# Altium integrated library Linear Technology Power Management uModule Regulators.IntLib: 166 symbols (part 55 of 67)
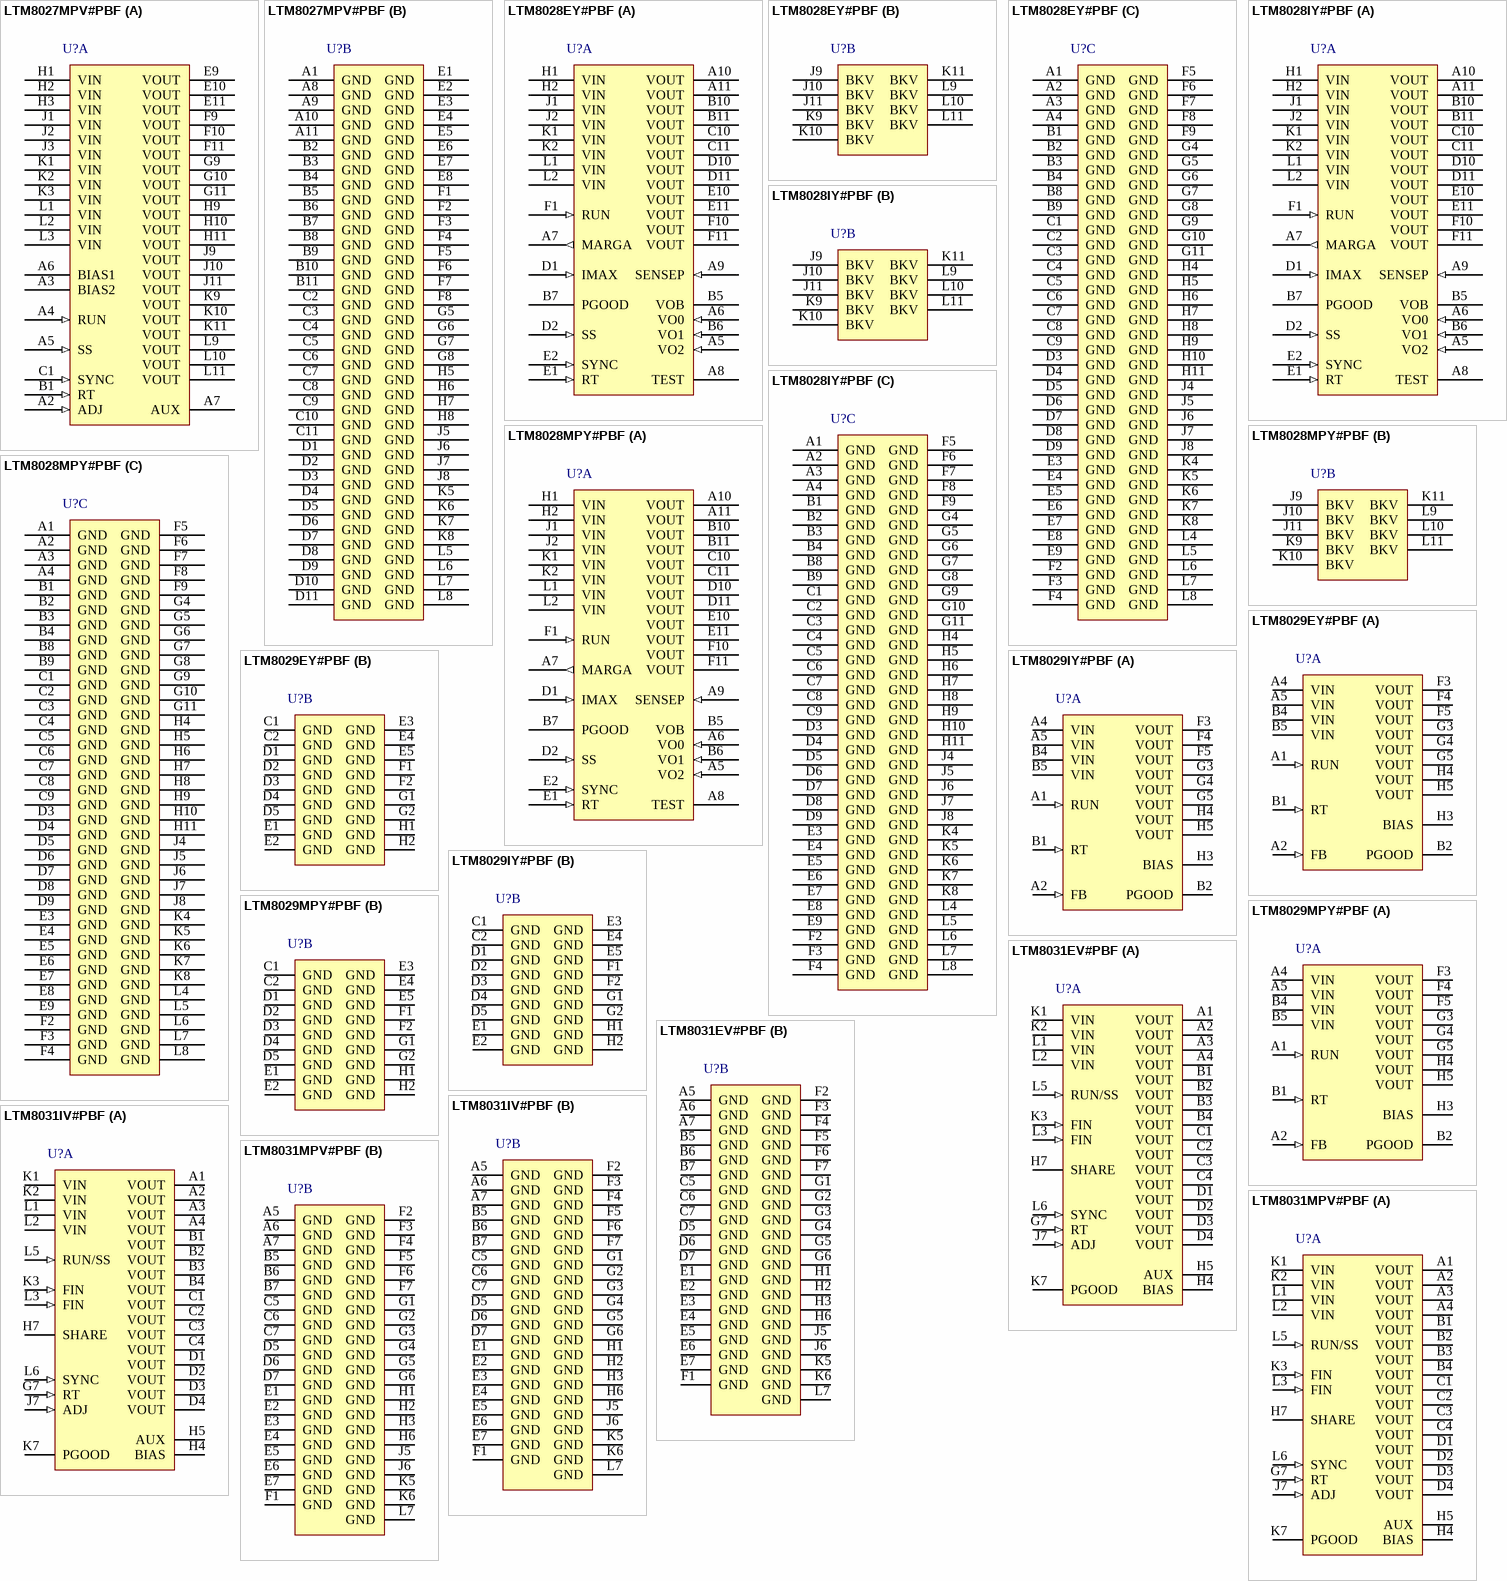
[diagram p81: symbols LTM8027MPV#PBF to LTM8031MPV#PBF]

## LTM8028EY#PBF
designator U?
36 VIN, UltraFast, Low Output Noise 5 A uModule Regulator, 114-pin BGA, -40 to 125 degC, Pb-Free, Tray; Manufacturer: Linear Technology; PartNumber: LTM8028EY#PBF; Extended Temp: E, I, MP; Frequency Adjust Range: 200kHz - 1MHz; Frequency(kHz): 1000; Ishutdown(uA): 1; Isupply(mA): 35; Output Current(A): 5; Switch Current(A): 8; Synchronous: no; Topology: Buck; Vin Max(V): 36; Vin Min(V): 6; Vout Max(V): 1.8; Vout Min(V): 0.8; PackageVersion: Rev. A, 01/2013; PackageReference: BGA-114; PackageDescription: 114-Ball BGA, Body 15 x 15 mm, Pitch 1.27 mm; Supplier 1: Digi-Key; Supplier Part Number 1: LTM8028EY#PBF-ND; Supplier 2: Farnell; Supplier Part Number 2: 2322434; Supplier 3: Newark; Supplier Part Number 3: 86W7070; Frequency Sync Range: 200kHz - 1MHz; Number of Outputs: 1; Packing: Tray; RoHS: TRUE; Tracking: no; Mounting Technology: Surface Mount; Code_JEDEC: MO-222; ComponentLink1Description: Manufacturer URL; ComponentLink1URL: http://www.linear.com/; ComponentLink2Description: Datasheet; ComponentLink2URL: http://cds.linear.com/docs/en/datasheet/8028f.pdf; ComponentLink3Description: Package Specification; ComponentLink3URL: http://cds.linear.com/docs/en/packaging/05081894_A_bga114.pdf
footprint LT-BGA-114-15000X15000X4920 (BGA, 114-Balls, Body 15x15mm, Pitch 1.27mm)
part A pins: A5 VO2 (in) "Output Voltage Select. These three-state pins combine to select a nominal output voltage from 0.8V to 1.8V in increments of 50mV. See Table 2 in the Applications Information section that defines the VO2, VO1 and VO0 settings (See Datasheet)", A6 VO0 (in) "Output Voltage Select. These three-state pins combine to select a nominal output voltage from 0.8V to 1.8V in increments of 50mV. See Table 2 in the Applications Information section that defines the VO2, VO1 and VO0 settings (See Datasheet)", A7 MARGA (out) "Analog Margining: This pin margins the output voltage over a continuous analog range of +/-10%. Tying this pin to GND adjusts output voltage by -10%. Driving this pin to 1.2V adjusts output voltage by 10%. A voltage source (See Datasheet)", A8 TEST "Factory Test. Leave this pin open.", A9 SENSEP (in) "Kelvin Sense for VOUT. The SENSEP pin is the inverting input to the error amplifier.", A10 VOUT (power) "Power Output Pins. Apply the output filter capacitor and the output load between these and the GND pins.", A11 VOUT (power) "Power Output Pins. Apply the output filter capacitor and the output load between these and the GND pins.", B5 VOB "Bias for VO0, VO1, VO2. This is a 3.3V source to conveniently pull up the VO0, VO1, VO2 pins, if desired. If not used, leave this pin floating.", B6 VO1 (in) "Output Voltage Select. These three-state pins combine to select a nominal output voltage from 0.8V to 1.8V in increments of 50mV. See Table 2 in the Applications Information section that defines the VO2, VO1 and VO0 settings (See Datasheet)", B7 PGOOD (oc), B10 VOUT (power) "Power Output Pins. Apply the output filter capacitor and the output load between these and the GND pins.", B11 VOUT (power) "Power Output Pins. Apply the output filter capacitor and the output load between these and the GND pins.", C10 VOUT (power) "Power Output Pins. Apply the output filter capacitor and the output load between these and the GND pins.", C11 VOUT (power) "Power Output Pins. Apply the output filter capacitor and the output load between these and the GND pins.", D1 IMAX (in) "Sets the Maximum Output Current. Connect a resistor/ NTC thermistor network to the IMAX pin to reduce the maximum regulated output current of the LTM8028 in response to temperature. This pin is internally pulled up to 2V (See Datasheet)", D2 SS (in) "The Soft-Start Pin. Place an external capacitor to ground to limit the regulated current during start-up conditions. The soft-start pin has an 11uA charging current.", D10 VOUT (power) "Power Output Pins. Apply the output filter capacitor and the output load between these and the GND pins.", D11 VOUT (power) "Power Output Pins. Apply the output filter capacitor and the output load between these and the GND pins.", E1 RT (in) "The RT pin is used to program the switching frequency of the LTM8028’s buck regulator by connecting a resistor from this pin to ground. The Applications Information section of the data sheet includes a table to determin(See Datasheet)", E2 SYNC (in) "Frequency Synchronization Pin. This pin allows the switching frequency to be synchronized to an external clock. The RT resistor should be chosen to operate the internal clock at 20% slower than the SYNC pulse frequency. This (See Datasheet)", E10 VOUT (power) "Power Output Pins. Apply the output filter capacitor and the output load between these and the GND pins.", E11 VOUT (power) "Power Output Pins. Apply the output filter capacitor and the output load between these and the GND pins.", F1 RUN (in) "The RUN pin acts as an enable pin and turns off the internal circuitry at 1.55V. The pin does not have any pull-up or pull-down, requiring a voltage bias for normal part operation. The RUN pin is internally clamped, so it (See Datasheet)", F10 VOUT (power) "Power Output Pins. Apply the output filter capacitor and the output load between these and the GND pins.", F11 VOUT (power) "Power Output Pins. Apply the output filter capacitor and the output load between these and the GND pins.", H1 VIN (power) "The VIN pin supplies current to the LTM8028’s internal regulator and to the internal power switch. This pin must be locally bypassed with an external, low ESR capacitor; see Table 1 for recommended values.", H2 VIN (power) "The VIN pin supplies current to the LTM8028’s internal regulator and to the internal power switch. This pin must be locally bypassed with an external, low ESR capacitor; see Table 1 for recommended values.", J1 VIN (power) "The VIN pin supplies current to the LTM8028’s internal regulator and to the internal power switch. This pin must be locally bypassed with an external, low ESR capacitor; see Table 1 for recommended values.", J2 VIN (power) "The VIN pin supplies current to the LTM8028’s internal regulator and to the internal power switch. This pin must be locally bypassed with an external, low ESR capacitor; see Table 1 for recommended values.", K1 VIN (power) "The VIN pin supplies current to the LTM8028’s internal regulator and to the internal power switch. This pin must be locally bypassed with an external, low ESR capacitor; see Table 1 for recommended values.", K2 VIN (power) "The VIN pin supplies current to the LTM8028’s internal regulator and to the internal power switch. This pin must be locally bypassed with an external, low ESR capacitor; see Table 1 for recommended values.", L1 VIN (power) "The VIN pin supplies current to the LTM8028’s internal regulator and to the internal power switch. This pin must be locally bypassed with an external, low ESR capacitor; see Table 1 for recommended values.", L2 VIN (power) "The VIN pin supplies current to the LTM8028’s internal regulator and to the internal power switch. This pin must be locally bypassed with an external, low ESR capacitor; see Table 1 for recommended values."
part B pins: J9 BKV (power) "Buck Regulator Output. Apply the step-down regulator’s bulk capacitance here (refer to Table 1). Do not connect this to the load. Do not drive a voltage into BKV.", J10 BKV (power) "Buck Regulator Output. Apply the step-down regulator’s bulk capacitance here (refer to Table 1). Do not connect this to the load. Do not drive a voltage into BKV.", J11 BKV (power) "Buck Regulator Output. Apply the step-down regulator’s bulk capacitance here (refer to Table 1). Do not connect this to the load. Do not drive a voltage into BKV.", K9 BKV (power) "Buck Regulator Output. Apply the step-down regulator’s bulk capacitance here (refer to Table 1). Do not connect this to the load. Do not drive a voltage into BKV.", K10 BKV (power) "Buck Regulator Output. Apply the step-down regulator’s bulk capacitance here (refer to Table 1). Do not connect this to the load. Do not drive a voltage into BKV.", K11 BKV (power) "Buck Regulator Output. Apply the step-down regulator’s bulk capacitance here (refer to Table 1). Do not connect this to the load. Do not drive a voltage into BKV.", L9 BKV (power) "Buck Regulator Output. Apply the step-down regulator’s bulk capacitance here (refer to Table 1). Do not connect this to the load. Do not drive a voltage into BKV.", L10 BKV (power) "Buck Regulator Output. Apply the step-down regulator’s bulk capacitance here (refer to Table 1). Do not connect this to the load. Do not drive a voltage into BKV.", L11 BKV (power) "Buck Regulator Output. Apply the step-down regulator’s bulk capacitance here (refer to Table 1). Do not connect this to the load. Do not drive a voltage into BKV."
part C pins: A1 GND (power) "Tie these GND pins to a local ground plane below the LTM8028 and the circuit components. In most applications, the bulk of the heat flow out of the LTM8028 is through these pads, so the printed circuit design has a large (See Datasheet)", A2 GND (power) "Tie these GND pins to a local ground plane below the LTM8028 and the circuit components. In most applications, the bulk of the heat flow out of the LTM8028 is through these pads, so the printed circuit design has a large (See Datasheet)", A3 GND (power) "Tie these GND pins to a local ground plane below the LTM8028 and the circuit components. In most applications, the bulk of the heat flow out of the LTM8028 is through these pads, so the printed circuit design has a large (See Datasheet)", A4 GND (power) "Tie these GND pins to a local ground plane below the LTM8028 and the circuit components. In most applications, the bulk of the heat flow out of the LTM8028 is through these pads, so the printed circuit design has a large (See Datasheet)", B1 GND (power) "Tie these GND pins to a local ground plane below the LTM8028 and the circuit components. In most applications, the bulk of the heat flow out of the LTM8028 is through these pads, so the printed circuit design has a large (See Datasheet)", B2 GND (power) "Tie these GND pins to a local ground plane below the LTM8028 and the circuit components. In most applications, the bulk of the heat flow out of the LTM8028 is through these pads, so the printed circuit design has a large (See Datasheet)", B3 GND (power) "Tie these GND pins to a local ground plane below the LTM8028 and the circuit components. In most applications, the bulk of the heat flow out of the LTM8028 is through these pads, so the printed circuit design has a large (See Datasheet)", B4 GND (power) "Tie these GND pins to a local ground plane below the LTM8028 and the circuit components. In most applications, the bulk of the heat flow out of the LTM8028 is through these pads, so the printed circuit design has a large (See Datasheet)", B8 GND (power) "Tie these GND pins to a local ground plane below the LTM8028 and the circuit components. In most applications, the bulk of the heat flow out of the LTM8028 is through these pads, so the printed circuit design has a large (See Datasheet)", B9 GND (power) "Tie these GND pins to a local ground plane below the LTM8028 and the circuit components. In most applications, the bulk of the heat flow out of the LTM8028 is through these pads, so the printed circuit design has a large (See Datasheet)", C1 GND (power) "Tie these GND pins to a local ground plane below the LTM8028 and the circuit components. In most applications, the bulk of the heat flow out of the LTM8028 is through these pads, so the printed circuit design has a large (See Datasheet)", C2 GND (power) "Tie these GND pins to a local ground plane below the LTM8028 and the circuit components. In most applications, the bulk of the heat flow out of the LTM8028 is through these pads, so the printed circuit design has a large (See Datasheet)", C3 GND (power) "Tie these GND pins to a local ground plane below the LTM8028 and the circuit components. In most applications, the bulk of the heat flow out of the LTM8028 is through these pads, so the printed circuit design has a large (See Datasheet)", C4 GND (power) "Tie these GND pins to a local ground plane below the LTM8028 and the circuit components. In most applications, the bulk of the heat flow out of the LTM8028 is through these pads, so the printed circuit design has a large (See Datasheet)", C5 GND (power) "Tie these GND pins to a local ground plane below the LTM8028 and the circuit components. In most applications, the bulk of the heat flow out of the LTM8028 is through these pads, so the printed circuit design has a large (See Datasheet)", C6 GND (power) "Tie these GND pins to a local ground plane below the LTM8028 and the circuit components. In most applications, the bulk of the heat flow out of the LTM8028 is through these pads, so the printed circuit design has a large (See Datasheet)", C7 GND (power) "Tie these GND pins to a local ground plane below the LTM8028 and the circuit components. In most applications, the bulk of the heat flow out of the LTM8028 is through these pads, so the printed circuit design has a large (See Datasheet)", C8 GND (power) "Tie these GND pins to a local ground plane below the LTM8028 and the circuit components. In most applications, the bulk of the heat flow out of the LTM8028 is through these pads, so the printed circuit design has a large (See Datasheet)", C9 GND (power) "Tie these GND pins to a local ground plane below the LTM8028 and the circuit components. In most applications, the bulk of the heat flow out of the LTM8028 is through these pads, so the printed circuit design has a large (See Datasheet)", D3 GND (power) "Tie these GND pins to a local ground plane below the LTM8028 and the circuit components. In most applications, the bulk of the heat flow out of the LTM8028 is through these pads, so the printed circuit design has a large (See Datasheet)", D4 GND (power) "Tie these GND pins to a local ground plane below the LTM8028 and the circuit components. In most applications, the bulk of the heat flow out of the LTM8028 is through these pads, so the printed circuit design has a large (See Datasheet)", D5 GND (power) "Tie these GND pins to a local ground plane below the LTM8028 and the circuit components. In most applications, the bulk of the heat flow out of the LTM8028 is through these pads, so the printed circuit design has a large (See Datasheet)", D6 GND (power) "Tie these GND pins to a local ground plane below the LTM8028 and the circuit components. In most applications, the bulk of the heat flow out of the LTM8028 is through these pads, so the printed circuit design has a large (See Datasheet)", D7 GND (power) "Tie these GND pins to a local ground plane below the LTM8028 and the circuit components. In most applications, the bulk of the heat flow out of the LTM8028 is through these pads, so the printed circuit design has a large (See Datasheet)", D8 GND (power) "Tie these GND pins to a local ground plane below the LTM8028 and the circuit components. In most applications, the bulk of the heat flow out of the LTM8028 is through these pads, so the printed circuit design has a large (See Datasheet)", D9 GND (power) "Tie these GND pins to a local ground plane below the LTM8028 and the circuit components. In most applications, the bulk of the heat flow out of the LTM8028 is through these pads, so the printed circuit design has a large (See Datasheet)", E3 GND (power) "Tie these GND pins to a local ground plane below the LTM8028 and the circuit components. In most applications, the bulk of the heat flow out of the LTM8028 is through these pads, so the printed circuit design has a large (See Datasheet)", E4 GND (power) "Tie these GND pins to a local ground plane below the LTM8028 and the circuit components. In most applications, the bulk of the heat flow out of the LTM8028 is through these pads, so the printed circuit design has a large (See Datasheet)", E5 GND (power) "Tie these GND pins to a local ground plane below the LTM8028 and the circuit components. In most applications, the bulk of the heat flow out of the LTM8028 is through these pads, so the printed circuit design has a large (See Datasheet)", E6 GND (power) "Tie these GND pins to a local ground plane below the LTM8028 and the circuit components. In most applications, the bulk of the heat flow out of the LTM8028 is through these pads, so the printed circuit design has a large (See Datasheet)", E7 GND (power) "Tie these GND pins to a local ground plane below the LTM8028 and the circuit components. In most applications, the bulk of the heat flow out of the LTM8028 is through these pads, so the printed circuit design has a large (See Datasheet)", E8 GND (power) "Tie these GND pins to a local ground plane below the LTM8028 and the circuit components. In most applications, the bulk of the heat flow out of the LTM8028 is through these pads, so the printed circuit design has a large (See Datasheet)", E9 GND (power) "Tie these GND pins to a local ground plane below the LTM8028 and the circuit components. In most applications, the bulk of the heat flow out of the LTM8028 is through these pads, so the printed circuit design has a large (See Datasheet)", F2 GND (power) "Tie these GND pins to a local ground plane below the LTM8028 and the circuit components. In most applications, the bulk of the heat flow out of the LTM8028 is through these pads, so the printed circuit design has a large (See Datasheet)", F3 GND (power) "Tie these GND pins to a local ground plane below the LTM8028 and the circuit components. In most applications, the bulk of the heat flow out of the LTM8028 is through these pads, so the printed circuit design has a large (See Datasheet)", F4 GND (power) "Tie these GND pins to a local ground plane below the LTM8028 and the circuit components. In most applications, the bulk of the heat flow out of the LTM8028 is through these pads, so the printed circuit design has a large (See Datasheet)", F5 GND (power) "Tie these GND pins to a local ground plane below the LTM8028 and the circuit components. In most applications, the bulk of the heat flow out of the LTM8028 is through these pads, so the printed circuit design has a large (See Datasheet)", F6 GND (power) "Tie these GND pins to a local ground plane below the LTM8028 and the circuit components. In most applications, the bulk of the heat flow out of the LTM8028 is through these pads, so the printed circuit design has a large (See Datasheet)", F7 GND (power) "Tie these GND pins to a local ground plane below the LTM8028 and the circuit components. In most applications, the bulk of the heat flow out of the LTM8028 is through these pads, so the printed circuit design has a large (See Datasheet)", F8 GND (power) "Tie these GND pins to a local ground plane below the LTM8028 and the circuit components. In most applications, the bulk of the heat flow out of the LTM8028 is through these pads, so the printed circuit design has a large (See Datasheet)", F9 GND (power) "Tie these GND pins to a local ground plane below the LTM8028 and the circuit components. In most applications, the bulk of the heat flow out of the LTM8028 is through these pads, so the printed circuit design has a large (See Datasheet)", G4 GND (power) "Tie these GND pins to a local ground plane below the LTM8028 and the circuit components. In most applications, the bulk of the heat flow out of the LTM8028 is through these pads, so the printed circuit design has a large (See Datasheet)", G5 GND (power) "Tie these GND pins to a local ground plane below the LTM8028 and the circuit components. In most applications, the bulk of the heat flow out of the LTM8028 is through these pads, so the printed circuit design has a large (See Datasheet)", G6 GND (power) "Tie these GND pins to a local ground plane below the LTM8028 and the circuit components. In most applications, the bulk of the heat flow out of the LTM8028 is through these pads, so the printed circuit design has a large (See Datasheet)", G7 GND (power) "Tie these GND pins to a local ground plane below the LTM8028 and the circuit components. In most applications, the bulk of the heat flow out of the LTM8028 is through these pads, so the printed circuit design has a large (See Datasheet)", G8 GND (power) "Tie these GND pins to a local ground plane below the LTM8028 and the circuit components. In most applications, the bulk of the heat flow out of the LTM8028 is through these pads, so the printed circuit design has a large (See Datasheet)", G9 GND (power) "Tie these GND pins to a local ground plane below the LTM8028 and the circuit components. In most applications, the bulk of the heat flow out of the LTM8028 is through these pads, so the printed circuit design has a large (See Datasheet)", G10 GND (power) "Tie these GND pins to a local ground plane below the LTM8028 and the circuit components. In most applications, the bulk of the heat flow out of the LTM8028 is through these pads, so the printed circuit design has a large (See Datasheet)", G11 GND (power) "Tie these GND pins to a local ground plane below the LTM8028 and the circuit components. In most applications, the bulk of the heat flow out of the LTM8028 is through these pads, so the printed circuit design has a large (See Datasheet)", H4 GND (power) "Tie these GND pins to a local ground plane below the LTM8028 and the circuit components. In most applications, the bulk of the heat flow out of the LTM8028 is through these pads, so the printed circuit design has a large (See Datasheet)", H5 GND (power) "Tie these GND pins to a local ground plane below the LTM8028 and the circuit components. In most applications, the bulk of the heat flow out of the LTM8028 is through these pads, so the printed circuit design has a large (See Datasheet)", H6 GND (power) "Tie these GND pins to a local ground plane below the LTM8028 and the circuit components. In most applications, the bulk of the heat flow out of the LTM8028 is through these pads, so the printed circuit design has a large (See Datasheet)", H7 GND (power) "Tie these GND pins to a local ground plane below the LTM8028 and the circuit components. In most applications, the bulk of the heat flow out of the LTM8028 is through these pads, so the printed circuit design has a large (See Datasheet)", H8 GND (power) "Tie these GND pins to a local ground plane below the LTM8028 and the circuit components. In most applications, the bulk of the heat flow out of the LTM8028 is through these pads, so the printed circuit design has a large (See Datasheet)", H9 GND (power) "Tie these GND pins to a local ground plane below the LTM8028 and the circuit components. In most applications, the bulk of the heat flow out of the LTM8028 is through these pads, so the printed circuit design has a large (See Datasheet)", H10 GND (power) "Tie these GND pins to a local ground plane below the LTM8028 and the circuit components. In most applications, the bulk of the heat flow out of the LTM8028 is through these pads, so the printed circuit design has a large (See Datasheet)", H11 GND (power) "Tie these GND pins to a local ground plane below the LTM8028 and the circuit components. In most applications, the bulk of the heat flow out of the LTM8028 is through these pads, so the printed circuit design has a large (See Datasheet)", J4 GND (power) "Tie these GND pins to a local ground plane below the LTM8028 and the circuit components. In most applications, the bulk of the heat flow out of the LTM8028 is through these pads, so the printed circuit design has a large (See Datasheet)", J5 GND (power) "Tie these GND pins to a local ground plane below the LTM8028 and the circuit components. In most applications, the bulk of the heat flow out of the LTM8028 is through these pads, so the printed circuit design has a large (See Datasheet)", J6 GND (power) "Tie these GND pins to a local ground plane below the LTM8028 and the circuit components. In most applications, the bulk of the heat flow out of the LTM8028 is through these pads, so the printed circuit design has a large (See Datasheet)", J7 GND (power) "Tie these GND pins to a local ground plane below the LTM8028 and the circuit components. In most applications, the bulk of the heat flow out of the LTM8028 is through these pads, so the printed circuit design has a large (See Datasheet)", J8 GND (power) "Tie these GND pins to a local ground plane below the LTM8028 and the circuit components. In most applications, the bulk of the heat flow out of the LTM8028 is through these pads, so the printed circuit design has a large (See Datasheet)", K4 GND (power) "Tie these GND pins to a local ground plane below the LTM8028 and the circuit components. In most applications, the bulk of the heat flow out of the LTM8028 is through these pads, so the printed circuit design has a large (See Datasheet)", K5 GND (power) "Tie these GND pins to a local ground plane below the LTM8028 and the circuit components. In most applications, the bulk of the heat flow out of the LTM8028 is through these pads, so the printed circuit design has a large (See Datasheet)", K6 GND (power) "Tie these GND pins to a local ground plane below the LTM8028 and the circuit components. In most applications, the bulk of the heat flow out of the LTM8028 is through these pads, so the printed circuit design has a large (See Datasheet)", K7 GND (power) "Tie these GND pins to a local ground plane below the LTM8028 and the circuit components. In most applications, the bulk of the heat flow out of the LTM8028 is through these pads, so the printed circuit design has a large (See Datasheet)", K8 GND (power) "Tie these GND pins to a local ground plane below the LTM8028 and the circuit components. In most applications, the bulk of the heat flow out of the LTM8028 is through these pads, so the printed circuit design has a large (See Datasheet)", L4 GND (power) "Tie these GND pins to a local ground plane below the LTM8028 and the circuit components. In most applications, the bulk of the heat flow out of the LTM8028 is through these pads, so the printed circuit design has a large (See Datasheet)", L5 GND (power) "Tie these GND pins to a local ground plane below the LTM8028 and the circuit components. In most applications, the bulk of the heat flow out of the LTM8028 is through these pads, so the printed circuit design has a large (See Datasheet)", L6 GND (power) "Tie these GND pins to a local ground plane below the LTM8028 and the circuit components. In most applications, the bulk of the heat flow out of the LTM8028 is through these pads, so the printed circuit design has a large (See Datasheet)", L7 GND (power) "Tie these GND pins to a local ground plane below the LTM8028 and the circuit components. In most applications, the bulk of the heat flow out of the LTM8028 is through these pads, so the printed circuit design has a large (See Datasheet)", L8 GND (power) "Tie these GND pins to a local ground plane below the LTM8028 and the circuit components. In most applications, the bulk of the heat flow out of the LTM8028 is through these pads, so the printed circuit design has a large (See Datasheet)"